# Altium footprint library K60-mainboard-v3.1.PcbLib: 108 footprints (part 6 of 7)
Each footprint in its own frame and in the unit in brackets; x right, y up, seen from the top. Pads: shape width x height; smd on the part's side, far side on the other; paste and mask are expansions set on the pad; w line width, h text height; cw(c..) or ccw(c..) is an arc to the next point about the centre after c.
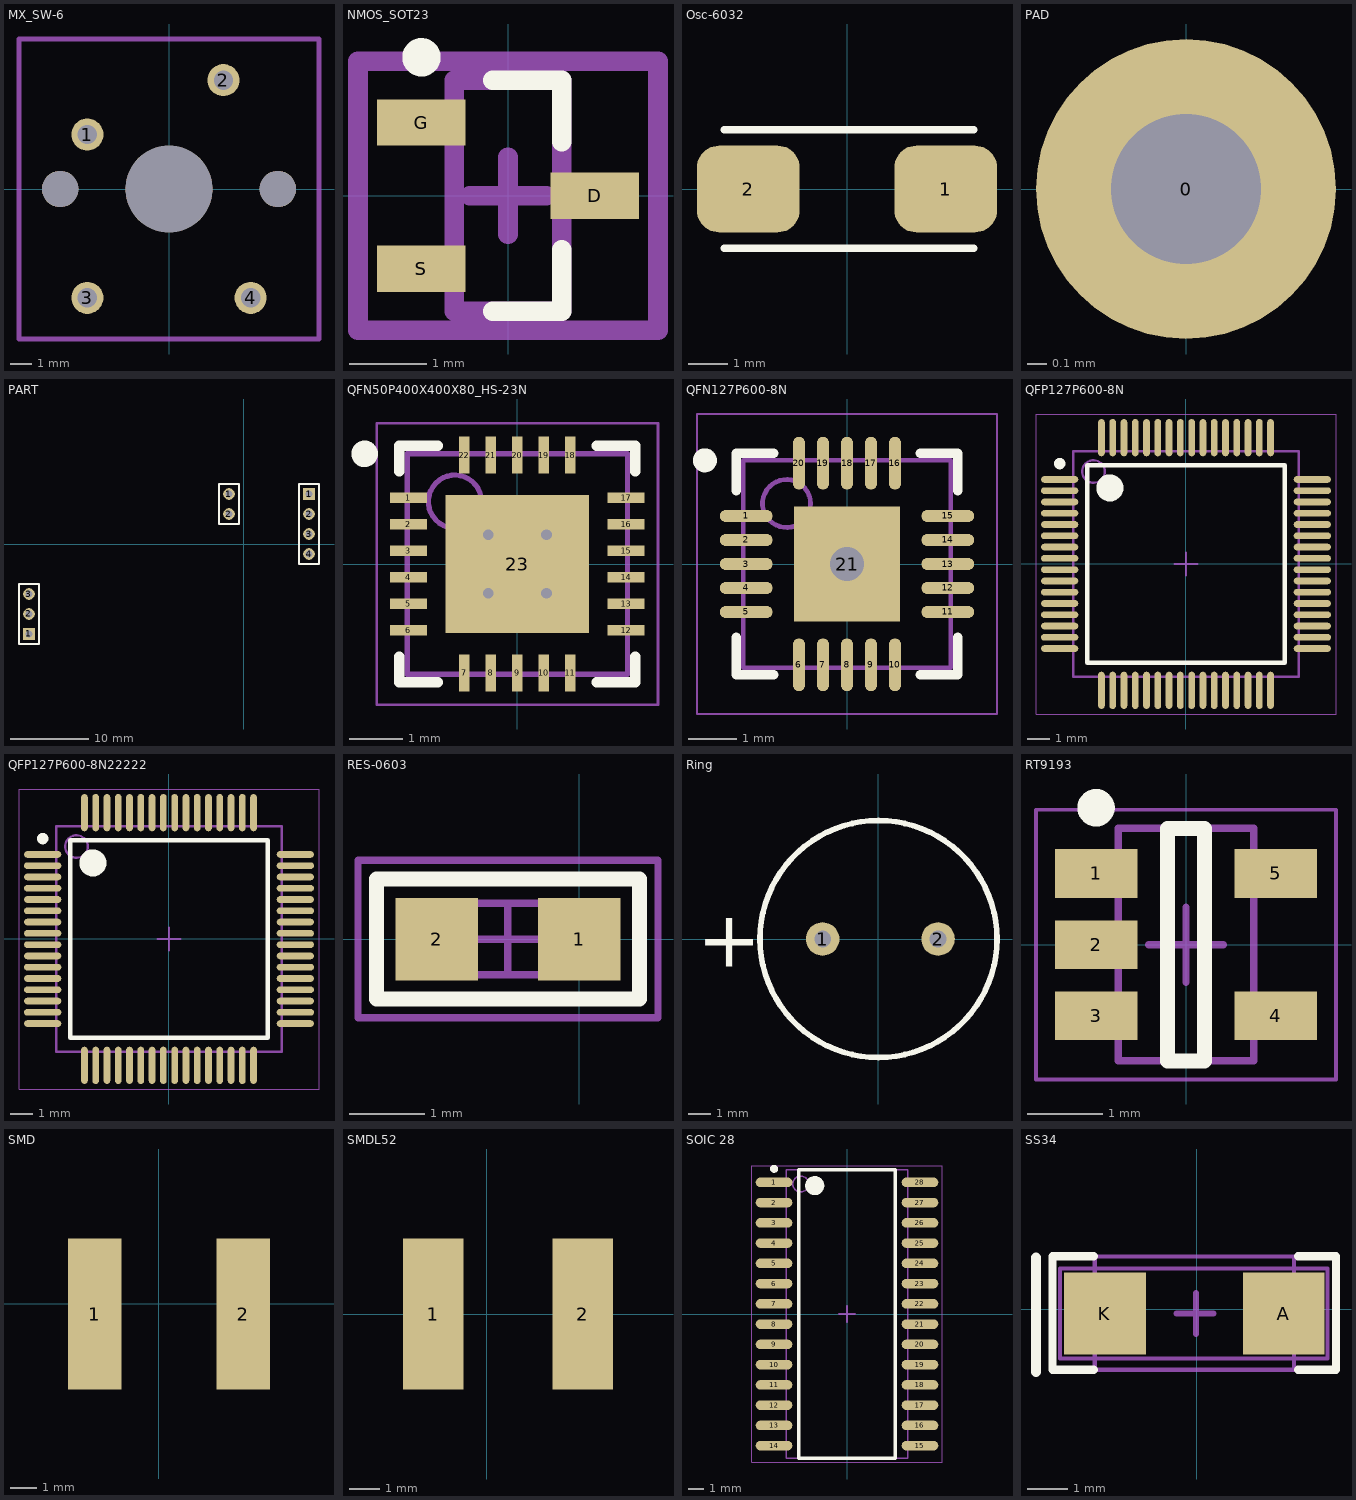
[diagram p5: the footprints below, top view; thin cyan lines are the x and y axes]

## MX_SW-6 [mm] "with Fixation pins  1-Pole w/Diode"
pads (7):
  round 1.5 hole 0.9: 1(-3.81,2.54) 2(2.54,5.08) 3(-3.81,-5.08) 4(3.81,-5.08)
  round 1.702 hole 1.702: ""(-5.08,0) ""(5.08,0)
  round 4.064 hole 4.064: ""(0,0)
Mechanical 1:
  lines w0.254: -7,-7 -7,7 7,7 7,-7 -7,-7

## NMOS_SOT23 [mm]
pads (3):
  rect 1.15x0.6 smd: D(1.125,0) G(-1.125,0.95) S(-1.125,-0.95)
Top Overlay:
  circle w0.25: c-1.125,1.8 r0.125
  lines w0.254: -0.2,-1.5 0.7,-1.5 0.7,-0.7 ; -0.2,1.5 0.7,1.5 0.7,0.7
Mechanical 13:
  lines w0.254: -0.7,-1.5 0.7,-1.5 0.7,1.5 -0.7,1.5 -0.7,-1.5
Mechanical 15:
  lines w0.254: -0.5,0 0.5,0 ; 0,-0.5 0,0.5 ; -1.95,-1.75 1.95,-1.75 1.95,1.75 -1.95,1.75 -1.95,-1.75
3D body: height 1.14, standoff 0, extent -0.7,-1.5 0.7,1.5

## Osc-6032 [mm]
pads (2):
  rrect50% 2.6x2.2 smd: 1(2.5,0) 2(-2.5,0)
Top Overlay:
  lines w0.2: -3.1,-1.5 3.2,-1.5 ; -3.1,1.5 3.2,1.5

## PAD [mil]
pads (1):
  round 60 hole 30: 0(0,0)

## PART [mm]
pads (9):
  rect 1.5x1.5 hole 0.9: 1(-27.305,-11.43) 1(8.255,6.35)
  round 1.5 hole 0.9: 1(-1.905,6.35) 2(-27.305,-8.89) 2(-1.905,3.81) 2(8.255,3.81) 3(-27.305,-6.35) 3(8.255,1.27) 4(8.255,-1.27)
Top Overlay:
  lines w0.2: -28.575,-12.7 -26.035,-12.7 -26.035,-5.08 -28.575,-5.08 -28.575,-12.7 ; -3.175,2.54 -0.635,2.54 -0.635,7.62 -3.175,7.62 -3.175,2.54 ; 6.985,-2.54 6.985,7.62 9.525,7.62 9.525,-2.54 6.985,-2.54

## QFN50P400X400X80_HS-23N [mm] "QFN, 22-Leads, Body 4.00x4.00mm, Pitch 0.50mm, Thermal Pad 2.60x2.70mm, IPC Medium Density"
height 0.8
pads (23):
  rect 0.7x0.2 smd: 1(-2.05,1.25) 2(-2.05,0.75) 3(-2.05,0.25) 4(-2.05,-0.25) 5(-2.05,-0.75) 6(-2.05,-1.25) 12(2.05,-1.25) 13(2.05,-0.75) 14(2.05,-0.25) 15(2.05,0.25) 16(2.05,0.75) 17(2.05,1.25)
  rect 0.2x0.7 smd: 7(-1,-2.05) 8(-0.5,-2.05) 9(0,-2.05) 10(0.5,-2.05) 11(1,-2.05) 18(1,2.05) 19(0.5,2.05) 20(0,2.05) 21(-0.5,2.05) 22(-1,2.05)
  rect 2.7x2.6 smd: 23(0,0)
via 0.55,-0.55 diameter 0.5 hole 0.2
via -0.55,-0.55 diameter 0.5 hole 0.2
via 0.55,0.55 diameter 0.5 hole 0.2
via -0.55,0.55 diameter 0.5 hole 0.2
Top Overlay:
  circle w0.25: c-2.875,2.075 r0.125
  lines w0.2: -2.225,-1.75 -2.225,-2.225 -1.5,-2.225 ; -2.225,1.75 -2.225,2.225 -1.5,2.225 ; 1.5,-2.225 2.225,-2.225 2.225,-1.75 ; 1.5,2.225 2.225,2.225 2.225,1.75
Mechanical 13:
  circle w0.1: c-1.175,1.175 r0.5
  lines w0.1: -2.075,-2.075 -2.075,2.075 2.075,2.075 2.075,-2.075 -2.075,-2.075
Mechanical 15:
  lines w0.05: -2.65,-2.65 -2.65,2.65 2.65,2.65 2.65,-2.65 -2.65,-2.65
  lines w0.1: -0.5,0 0.5,0 ; 0,-0.5 0,0.5
3D body: height 0.8, standoff 0.01, extent -2.075,-2.075 2.075,2.075

## QFN127P600-8N [mm]
height 0.8
pads (21):
  oval 1.1x0.25 smd: 1(-2.1,1) 2(-2.1,0.5) 3(-2.1,0) 4(-2.1,-0.5) 5(-2.1,-1) 11(2.1,-1) 12(2.1,-0.5) 13(2.1,0) 14(2.1,0.5) 15(2.1,1)
  oval 0.25x1.1 smd: 6(-1,-2.1) 7(-0.5,-2.1) 8(0,-2.1) 9(0.5,-2.1) 10(1,-2.1) 16(1,2.1) 17(0.5,2.1) 18(0,2.1) 19(-0.5,2.1) 20(-1,2.1)
  rect 2.2x2.4 smd: 21(0,0)
via 0,0 diameter 1.1 hole 0.7
Top Overlay:
  circle w0.25: c-2.96,2.16 r0.125
  lines w0.2: -2.31,-1.525 -2.31,-2.31 -1.525,-2.31 ; -2.31,1.525 -2.31,2.31 -1.525,2.31 ; 1.525,-2.31 2.31,-2.31 2.31,-1.525 ; 1.525,2.31 2.31,2.31 2.31,1.525
Mechanical 13:
  circle w0.1: c-1.26,1.26 r0.5
  lines w0.1: -2.16,-2.16 2.16,-2.16 2.16,2.16 -2.16,2.16 -2.16,-2.16
Mechanical 15:
  lines w0.05: -3.125,-3.125 3.125,-3.125 3.125,3.125 -3.125,3.125 -3.125,-3.125
  lines w0.1: -0.5,0 0.5,0 ; 0,-0.5 0,0.5
3D body: height 0.8, standoff 0.01, extent -2.16,-2.16 2.16,2.16

## QFP127P600-8N [mm]
height 1.6
pads (64):
  oval 1.65x0.3 smd: 1(-5.6,3.75) 2(-5.6,3.25) 3(-5.6,2.75) 4(-5.6,2.25) 5(-5.6,1.75) 6(-5.6,1.25) 7(-5.6,0.75) 8(-5.6,0.25) 9(-5.6,-0.25) 10(-5.6,-0.75) 11(-5.6,-1.25) 12(-5.6,-1.75) 13(-5.6,-2.25) 14(-5.6,-2.75) 15(-5.6,-3.25) 16(-5.6,-3.75) 33(5.6,-3.75) 34(5.6,-3.25) 35(5.6,-2.75) 36(5.6,-2.25) 37(5.6,-1.75) 38(5.6,-1.25) 39(5.6,-0.75) 40(5.6,-0.25) 41(5.6,0.25) 42(5.6,0.75) 43(5.6,1.25) 44(5.6,1.75) 45(5.6,2.25) 46(5.6,2.75) 47(5.6,3.25) 48(5.6,3.75)
  oval 0.3x1.65 smd: 17(-3.75,-5.6) 18(-3.25,-5.6) 19(-2.75,-5.6) 20(-2.25,-5.6) 21(-1.75,-5.6) 22(-1.25,-5.6) 23(-0.75,-5.6) 24(-0.25,-5.6) 25(0.25,-5.6) 26(0.75,-5.6) 27(1.25,-5.6) 28(1.75,-5.6) 29(2.25,-5.6) 30(2.75,-5.6) 31(3.25,-5.6) 32(3.75,-5.6) 49(3.75,5.6) 50(3.25,5.6) 51(2.75,5.6) 52(2.25,5.6) 53(1.75,5.6) 54(1.25,5.6) 55(0.75,5.6) 56(0.25,5.6) 57(-0.25,5.6) 58(-0.75,5.6) 59(-1.25,5.6) 60(-1.75,5.6) 61(-2.25,5.6) 62(-2.75,5.6) 63(-3.25,5.6) 64(-3.75,5.6)
Top Overlay:
  circle w0.6: c-3.375,3.375 r0.3
  circle w0.25: c-5.6,4.45 r0.125
  lines w0.2: -4.375,-4.375 4.375,-4.375 4.375,4.375 -4.375,4.375 -4.375,-4.375
Mechanical 13:
  circle w0.1: c-4.1,4.1 r0.5
  lines w0.1: -5,-5 5,-5 5,5 -5,5 -5,-5
Mechanical 15:
  lines w0.05: -6.65,-6.65 6.65,-6.65 6.65,6.65 -6.65,6.65 -6.65,-6.65
  lines w0.1: -0.5,0 0.5,0 ; 0,-0.5 0,0.5
3D body: height 1.6, standoff 0.15, extent -5,-5 5,5

## QFP127P600-8N22222 [mm]
height 1.6
pads (64):
  oval 1.65x0.3 smd: 1(-5.6,3.75) 2(-5.6,3.25) 3(-5.6,2.75) 4(-5.6,2.25) 5(-5.6,1.75) 6(-5.6,1.25) 7(-5.6,0.75) 8(-5.6,0.25) 9(-5.6,-0.25) 10(-5.6,-0.75) 11(-5.6,-1.25) 12(-5.6,-1.75) 13(-5.6,-2.25) 14(-5.6,-2.75) 15(-5.6,-3.25) 16(-5.6,-3.75) 33(5.6,-3.75) 34(5.6,-3.25) 35(5.6,-2.75) 36(5.6,-2.25) 37(5.6,-1.75) 38(5.6,-1.25) 39(5.6,-0.75) 40(5.6,-0.25) 41(5.6,0.25) 42(5.6,0.75) 43(5.6,1.25) 44(5.6,1.75) 45(5.6,2.25) 46(5.6,2.75) 47(5.6,3.25) 48(5.6,3.75)
  oval 0.3x1.65 smd: 17(-3.75,-5.6) 18(-3.25,-5.6) 19(-2.75,-5.6) 20(-2.25,-5.6) 21(-1.75,-5.6) 22(-1.25,-5.6) 23(-0.75,-5.6) 24(-0.25,-5.6) 25(0.25,-5.6) 26(0.75,-5.6) 27(1.25,-5.6) 28(1.75,-5.6) 29(2.25,-5.6) 30(2.75,-5.6) 31(3.25,-5.6) 32(3.75,-5.6) 49(3.75,5.6) 50(3.25,5.6) 51(2.75,5.6) 52(2.25,5.6) 53(1.75,5.6) 54(1.25,5.6) 55(0.75,5.6) 56(0.25,5.6) 57(-0.25,5.6) 58(-0.75,5.6) 59(-1.25,5.6) 60(-1.75,5.6) 61(-2.25,5.6) 62(-2.75,5.6) 63(-3.25,5.6) 64(-3.75,5.6)
Top Overlay:
  circle w0.6: c-3.375,3.375 r0.3
  circle w0.25: c-5.6,4.45 r0.125
  lines w0.2: -4.375,-4.375 4.375,-4.375 4.375,4.375 -4.375,4.375 -4.375,-4.375
Mechanical 13:
  circle w0.1: c-4.1,4.1 r0.5
  lines w0.1: -5,-5 5,-5 5,5 -5,5 -5,-5
Mechanical 15:
  lines w0.05: -6.65,-6.65 6.65,-6.65 6.65,6.65 -6.65,6.65 -6.65,-6.65
  lines w0.1: -0.5,0 0.5,0 ; 0,-0.5 0,0.5
3D body: height 1.6, standoff 0.15, extent -5,-5 5,5

## RES-0603 [mm]
pads (2):
  rect 1.1x1.1 smd: 1(0,0) 2(-1.9,0)
Top Overlay:
  lines w0.2: -2.7,-0.8 0.8,-0.8 0.8,0.8 -2.7,0.8 -2.7,-0.8
Mechanical 13:
  lines w0.1: -1.8,-0.475 -0.1,-0.475 -0.1,0.475 -1.8,0.475 -1.8,-0.475
Mechanical 15:
  lines w0.1: -1.425,0 -0.475,0 ; -0.95,-0.475 -0.95,0.475 ; -2.95,-1.05 1.05,-1.05 1.05,1.05 -2.95,1.05 -2.95,-1.05
3D body: height 0.6, standoff 0, extent -1.8,-0.475 -0.1,0.475

## Ring [mil]
pads (2):
  round 60 hole 30: 1(-100,0) 2(106.69,0)
Top Overlay:
  circle w10: c0,0 r212.19
  text "+" at -325,-50 h100

## RT9193 [mm]
height 1.3
pads (5):
  rect 1.1x0.65 smd: 1(-1.2,0.95) 2(-1.2,0) 3(-1.2,-0.95) 4(1.2,-0.95) 5(1.2,0.95)
Top Overlay:
  circle w0.25: c-1.2,1.825 r0.125
  lines w0.2: -0.25,-1.55 -0.25,1.55 0.25,1.55 0.25,-1.55 -0.25,-1.55
Mechanical 13:
  lines w0.1: -0.9,-1.55 0.9,-1.55 0.9,1.55 -0.9,1.55 -0.9,-1.55
Mechanical 15:
  lines w0.05: -2,-1.8 2,-1.8 2,1.8 -2,1.8 -2,-1.8
  lines w0.1: -0.5,0 0.5,0 ; 0,-0.5 0,0.5
3D body: height 1.3, standoff 0, extent -0.9,-1.55 0.9,1.55

## SMD [mm]
pads (2):
  rect 2x5.7 smd: 1(-2.413,-0.381) 2(3.175,-0.381)

## SMDL52 [mm]
pads (2):
  rect 2x5 smd: 1(-1.778,0) 2(3.175,0)

## SOIC 28 [mm] "SOIC, 28-Leads, Body 17.90x7.50mm, Pitch 1.27mm, IPC Medium Density"
height 2.65
pads (28):
  oval 2.3x0.6 smd: 1(-4.575,8.255) 2(-4.575,6.985) 3(-4.575,5.715) 4(-4.575,4.445) 5(-4.575,3.175) 6(-4.575,1.905) 7(-4.575,0.635) 8(-4.575,-0.635) 9(-4.575,-1.905) 10(-4.575,-3.175) 11(-4.575,-4.445) 12(-4.575,-5.715) 13(-4.575,-6.985) 14(-4.575,-8.255) 15(4.575,-8.255) 16(4.575,-6.985) 17(4.575,-5.715) 18(4.575,-4.445) 19(4.575,-3.175) 20(4.575,-1.905) 21(4.575,-0.635) 22(4.575,0.635) 23(4.575,1.905) 24(4.575,3.175) 25(4.575,4.445) 26(4.575,5.715) 27(4.575,6.985) 28(4.575,8.255)
Top Overlay:
  circle w0.25: c-4.575,9.105 r0.125
  circle w0.6: c-2.025,8.05 r0.3
  lines w0.2: -3.025,-9.05 -3.025,9.05 3.025,9.05 3.025,-9.05 -3.025,-9.05
Mechanical 13:
  circle w0.1: c-2.9,8.15 r0.5
  lines w0.1: -3.8,-9.05 -3.8,9.05 3.8,9.05 3.8,-9.05 -3.8,-9.05
Mechanical 15:
  lines w0.05: -5.975,-9.3 -5.975,9.3 5.975,9.3 5.975,-9.3 -5.975,-9.3
  lines w0.1: -0.5,0 0.5,0 ; 0,-0.5 0,0.5
3D body: height 2.65, standoff 0.23, extent -3.8,-9.05 3.8,9.05

## SS34 [mm]
pads (2):
  rect 2x2 smd: A(2.125,-0.102) K(-2.25,-0.102)
Top Overlay:
  lines w0.2: -2.525,-1.477 -3.531,-1.477 -3.531,1.298 -2.525,1.298 ; 2.475,-1.477 3.404,-1.477 3.404,1.298 2.475,1.298
  lines w0.254: -3.937,-1.524 -3.937,1.27
Mechanical 13:
  lines w0.1: -2.5,-1.477 -2.5,1.298 2.375,1.298 2.375,-1.477 -2.5,-1.477
Mechanical 15:
  lines w0.1: -3.353,-1.202 3.2,-1.202 3.2,0.998 -3.353,0.998 -3.353,-1.202
  lines w0.15: -0.5,-0.102 0.4,-0.102 ; -0.025,-0.602 -0.025,0.398
3D body: height 1.4, standoff 0, extent -2.475,-1.477 2.375,1.298